# Altium integrated library SN6505ADBVT.IntLib: 1 symbol
Pins are listed as number, name and electrical type; pins without a type are passive.

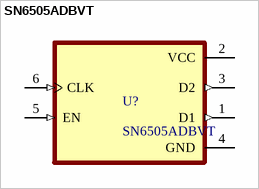
[diagram p0: symbol SN6505ADBVT]

## SN6505ADBVT
designator U?
Low-noise, 1-A, 160-kHz transformer driver with soft start for isolated power supplies 6-SOT-23 -55 to 125; MF: Texas Instruments; Texas_Instruments-Purchase-URL: https://snapeda.com/shop?store=Texas+Instruments&id=779078; Value: *; Availability: Unavailable; SnapEDA_Link: https://www.snapeda.com/parts/SN6505ADBVT/Texas%20Instruments/view-part/779078/?ref=snap; Package: SOT-23-6 Texas Instruments; MP: SN6505ADBVT; Price: None; BuyPart: https://www.snapeda.com/parts/SN6505ADBVT/Texas%20Instruments/view-part/779078/?ref=eda
footprint SOT95P280X145-6N
pins: 1 D1 (out), 2 VCC (power), 3 D2 (out), 4 GND (power), 5 EN (in), 6 CLK (in)